# Altium integrated library Borhan_Resistors.IntLib: 69 symbols
Pins are listed as number, name and electrical type; pins without a type are passive.

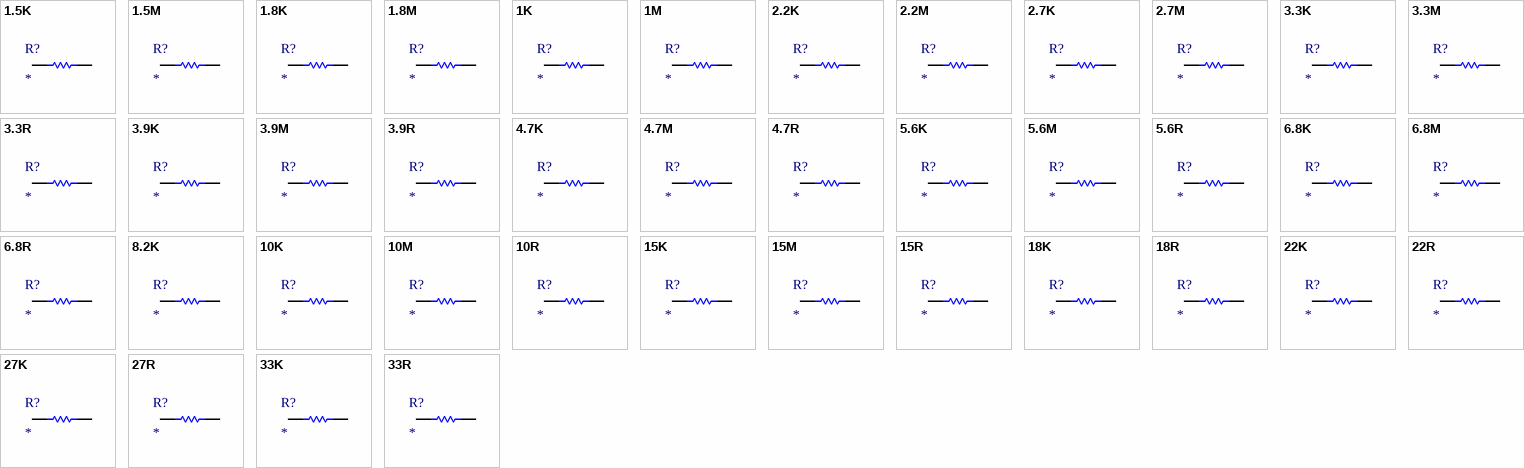
[diagram p0: symbols 1.5K to 33R]

## 1.5K
designator R?
1.8W
footprint 1.5K
pins: 1, 2

## 1.5M
designator R?
1.8W
footprint 1.5M
pins: 1, 2

## 1.8K
designator R?
1.8W
footprint 1.8K
pins: 1, 2

## 1.8M
designator R?
1.8W
footprint 1.8M
pins: 1, 2

## 1K
designator R?
1.8W
footprint 1K
pins: 1, 2

## 1M
designator R?
1.8W
footprint 1M
pins: 1, 2

## 2.2K
designator R?
1.8W
footprint 2.2K
pins: 1, 2

## 2.2M
designator R?
1.8W
footprint 2.2M
pins: 1, 2

## 2.7K
designator R?
1.8W
footprint 2.7K
pins: 1, 2

## 2.7M
designator R?
1.8W
footprint 2.7M
pins: 1, 2

## 3.3K
designator R?
1.8W
footprint 3.3K
pins: 1, 2

## 3.3M
designator R?
1.8W
footprint 3.3M
pins: 1, 2

## 3.3R
designator R?
1.8W
footprint 3.3R
pins: 1, 2

## 3.9K
designator R?
1.8W
footprint 3.9K
pins: 1, 2

## 3.9M
designator R?
1.8W
footprint 3.9M
pins: 1, 2

## 3.9R
designator R?
1.8W
footprint 3.9R
pins: 1, 2

## 4.7K
designator R?
1.8W
footprint 4.7K
pins: 1, 2

## 4.7M
designator R?
1.8W
footprint 4.7M
pins: 1, 2

## 4.7R
designator R?
1.8W
footprint 4.7R
pins: 1, 2

## 5.6K
designator R?
1.8W
footprint 5.6K
pins: 1, 2

## 5.6M
designator R?
1.8W
footprint 5.6M
pins: 1, 2

## 5.6R
designator R?
1.8W
footprint 5.6R
pins: 1, 2

## 6.8K
designator R?
1.8W
footprint 6.8K
pins: 1, 2

## 6.8M
designator R?
1.8W
footprint 6.8M
pins: 1, 2

## 6.8R
designator R?
1.8W
footprint 6.8R
pins: 1, 2

## 8.2K
designator R?
1.8W
footprint 8.2K
pins: 1, 2

## 10K
designator R?
1.8W
footprint 10K
pins: 1, 2

## 10M
designator R?
1.8W
footprint 10M (Footprint not found)
pins: 1, 2

## 10R
designator R?
1.8W
footprint 10R
pins: 1, 2

## 15K
designator R?
1.8W
footprint 15K
pins: 1, 2

## 15M
designator R?
1.8W
footprint 15M
pins: 1, 2

## 15R
designator R?
1.8W
footprint 15R
pins: 1, 2

## 18K
designator R?
1.8W
footprint 18K
pins: 1, 2

## 18R
designator R?
1.8W
footprint 18R
pins: 1, 2

## 22K
designator R?
1.8W
footprint 22K
pins: 1, 2

## 22R
designator R?
1.8W
footprint 22R
pins: 1, 2

## 27K
designator R?
1.8W
footprint 27K
pins: 1, 2

## 27R
designator R?
1.8W
footprint 27R
pins: 1, 2

## 33K
designator R?
1.8W
footprint 33K
pins: 1, 2

## 33R
designator R?
1.8W
footprint 33R
pins: 1, 2

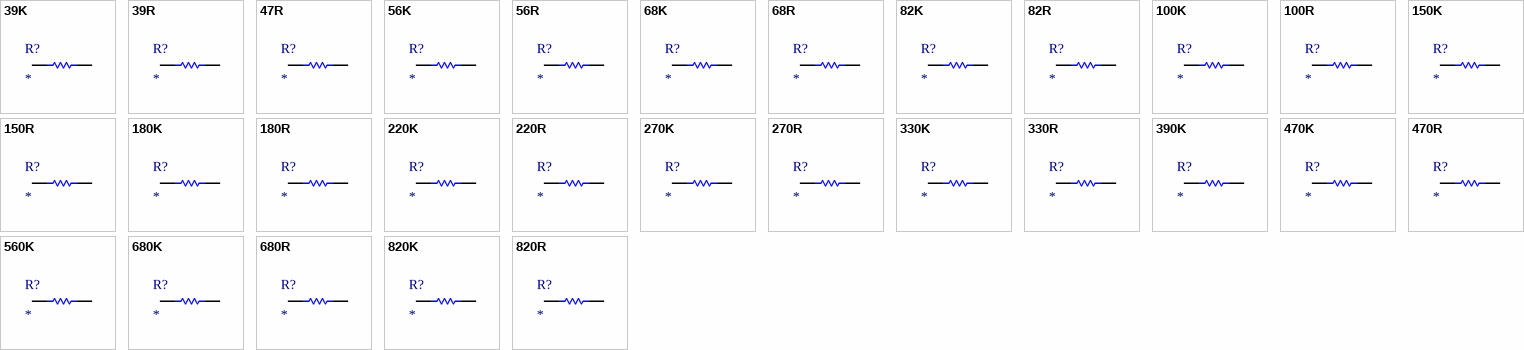
[diagram p1: symbols 39K to 820R]

## 39K
designator R?
1.8W
footprint 39K
pins: 1, 2

## 39R
designator R?
1.8W
footprint 39R
pins: 1, 2

## 47R
designator R?
1.8W
footprint 47R
pins: 1, 2

## 56K
designator R?
1.8W
footprint 56K
pins: 1, 2

## 56R
designator R?
1.8W
footprint 56R
pins: 1, 2

## 68K
designator R?
1.8W
footprint 68K
pins: 1, 2

## 68R
designator R?
1.8W
footprint 68R
pins: 1, 2

## 82K
designator R?
1.8W
footprint 82K
pins: 1, 2

## 82R
designator R?
1.8W
footprint 82R
pins: 1, 2

## 100K
designator R?
1.8W
footprint 100K
pins: 1, 2

## 100R
designator R?
1.8W
footprint 100R
pins: 1, 2

## 150K
designator R?
1.8W
footprint 150K
pins: 1, 2

## 150R
designator R?
1.8W
footprint 150R
pins: 1, 2

## 180K
designator R?
1.8W
footprint 180K
pins: 1, 2

## 180R
designator R?
1.8W
footprint 180R
pins: 1, 2

## 220K
designator R?
1.8W
footprint 220K
pins: 1, 2

## 220R
designator R?
1.8W
footprint 220R
pins: 1, 2

## 270K
designator R?
1.8W
footprint 270K
pins: 1, 2

## 270R
designator R?
1.8W
footprint 270R
pins: 1, 2

## 330K
designator R?
1.8W
footprint 330K
pins: 1, 2

## 330R
designator R?
1.8W
footprint 330R
pins: 1, 2

## 390K
designator R?
1.8W
footprint 390K
pins: 1, 2

## 470K
designator R?
1.8W
footprint 470K
pins: 1, 2

## 470R
designator R?
1.8W
footprint 470R
pins: 1, 2

## 560K
designator R?
1.8W
footprint 560K
pins: 1, 2

## 680K
designator R?
1.8W
footprint 680K
pins: 1, 2

## 680R
designator R?
1.8W
footprint 680R
pins: 1, 2

## 820K
designator R?
1.8W
footprint 820K
pins: 1, 2

## 820R
designator R?
1.8W
footprint 820R
pins: 1, 2